# EAGLE library part RASPBERRY_PI_40 (library pi)
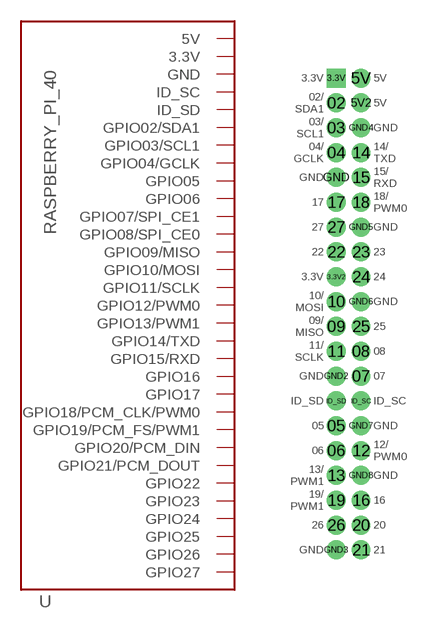
[diagram p0: symbol with the pads of RASPBERRY_PI_40; footprint RASPBERRY_PI_40]

Designator prefix -

## RASPBERRY_PI_40  [RASPBERRY_PI_40]
02  GPIO02/SDA1
03  GPIO03/SCL1
3.3V  3.3V
3.3V2  3.3V
04  GPIO04/GCLK
05  GPIO05
5V  5V
5V2  5V
06  GPIO06
07  GPIO07/SPI_CE1
08  GPIO08/SPI_CE0
09  GPIO09/MISO
10  GPIO10/MOSI
11  GPIO11/SCLK
12  GPIO12/PWM0
13  GPIO13/PWM1
14  GPIO14/TXD
15  GPIO15/RXD
16  GPIO16
17  GPIO17
18  GPIO18/PCM_CLK/PWM0
19  GPIO19/PCM_FS/PWM1
20  GPIO20/PCM_DIN
21  GPIO21/PCM_DOUT
22  GPIO22
23  GPIO23
24  GPIO24
25  GPIO25
26  GPIO26
27  GPIO27
GND  GND
GND2  GND
GND3  GND
GND4  GND
GND5  GND
GND6  GND
GND7  GND
GND8  GND
ID_SC  ID_SC
ID_SD  ID_SD

## Footprint RASPBERRY_PI_40 (pad centres in mm)
drill 1.1 pad 1.93: 02 -1.27,17.78; 03 -1.27,15.24; 3.3V2 -1.27,0; 04 -1.27,12.7; 05 -1.27,-15.24; 5V 1.27,20.32; 5V2 1.27,17.78; 06 -1.27,-17.78; 07 1.27,-10.16; 08 1.27,-7.62; 09 -1.27,-5.08; 10 -1.27,-2.54; 11 -1.27,-7.62; 12 1.27,-17.78; 13 -1.27,-20.32; 14 1.27,12.7; 15 1.27,10.16; 16 1.27,-22.86; 17 -1.27,7.62; 18 1.27,7.62; 19 -1.27,-22.86; 20 1.27,-25.4; 21 1.27,-27.94; 22 -1.27,2.54; 23 1.27,2.54; 24 1.27,0; 25 1.27,-5.08; 26 -1.27,-25.4; 27 -1.27,5.08; GND -1.27,10.16; GND2 -1.27,-10.16; GND3 -1.27,-27.94; GND4 1.27,15.24; GND5 1.27,5.08; GND6 1.27,-2.54; GND7 1.27,-15.24; GND8 1.27,-20.32; ID_SC 1.27,-12.7; ID_SD -1.27,-12.7
drill 1.1 pad 1.93 square: 3.3V -1.27,20.32